# Altium schematic symbol library FM25V20-DGTR.Schlib: 1 symbol
Pins are listed as number, name and electrical type; pins without a type are passive.

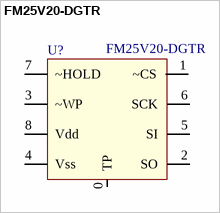
[diagram p0: symbol FM25V20-DGTR]

## FM25V20-DGTR
designator U?
Назначение: FRAM память 256 КБайт; Наименование: FM25V20-DGTR
footprint TDFN-8
pins: 0 TP (oc), 1 ~CS (oc), 2 SO (oc), 3 ~WP (oc), 4 Vss (oc), 5 SI (oc), 6 SCK (oc), 7 ~HOLD (oc), 8 Vdd (oc)